# Altium integrated library TL3572-EVM-A1.1-000-202609041832.IntLib: 124 symbols (part 2 of 2)
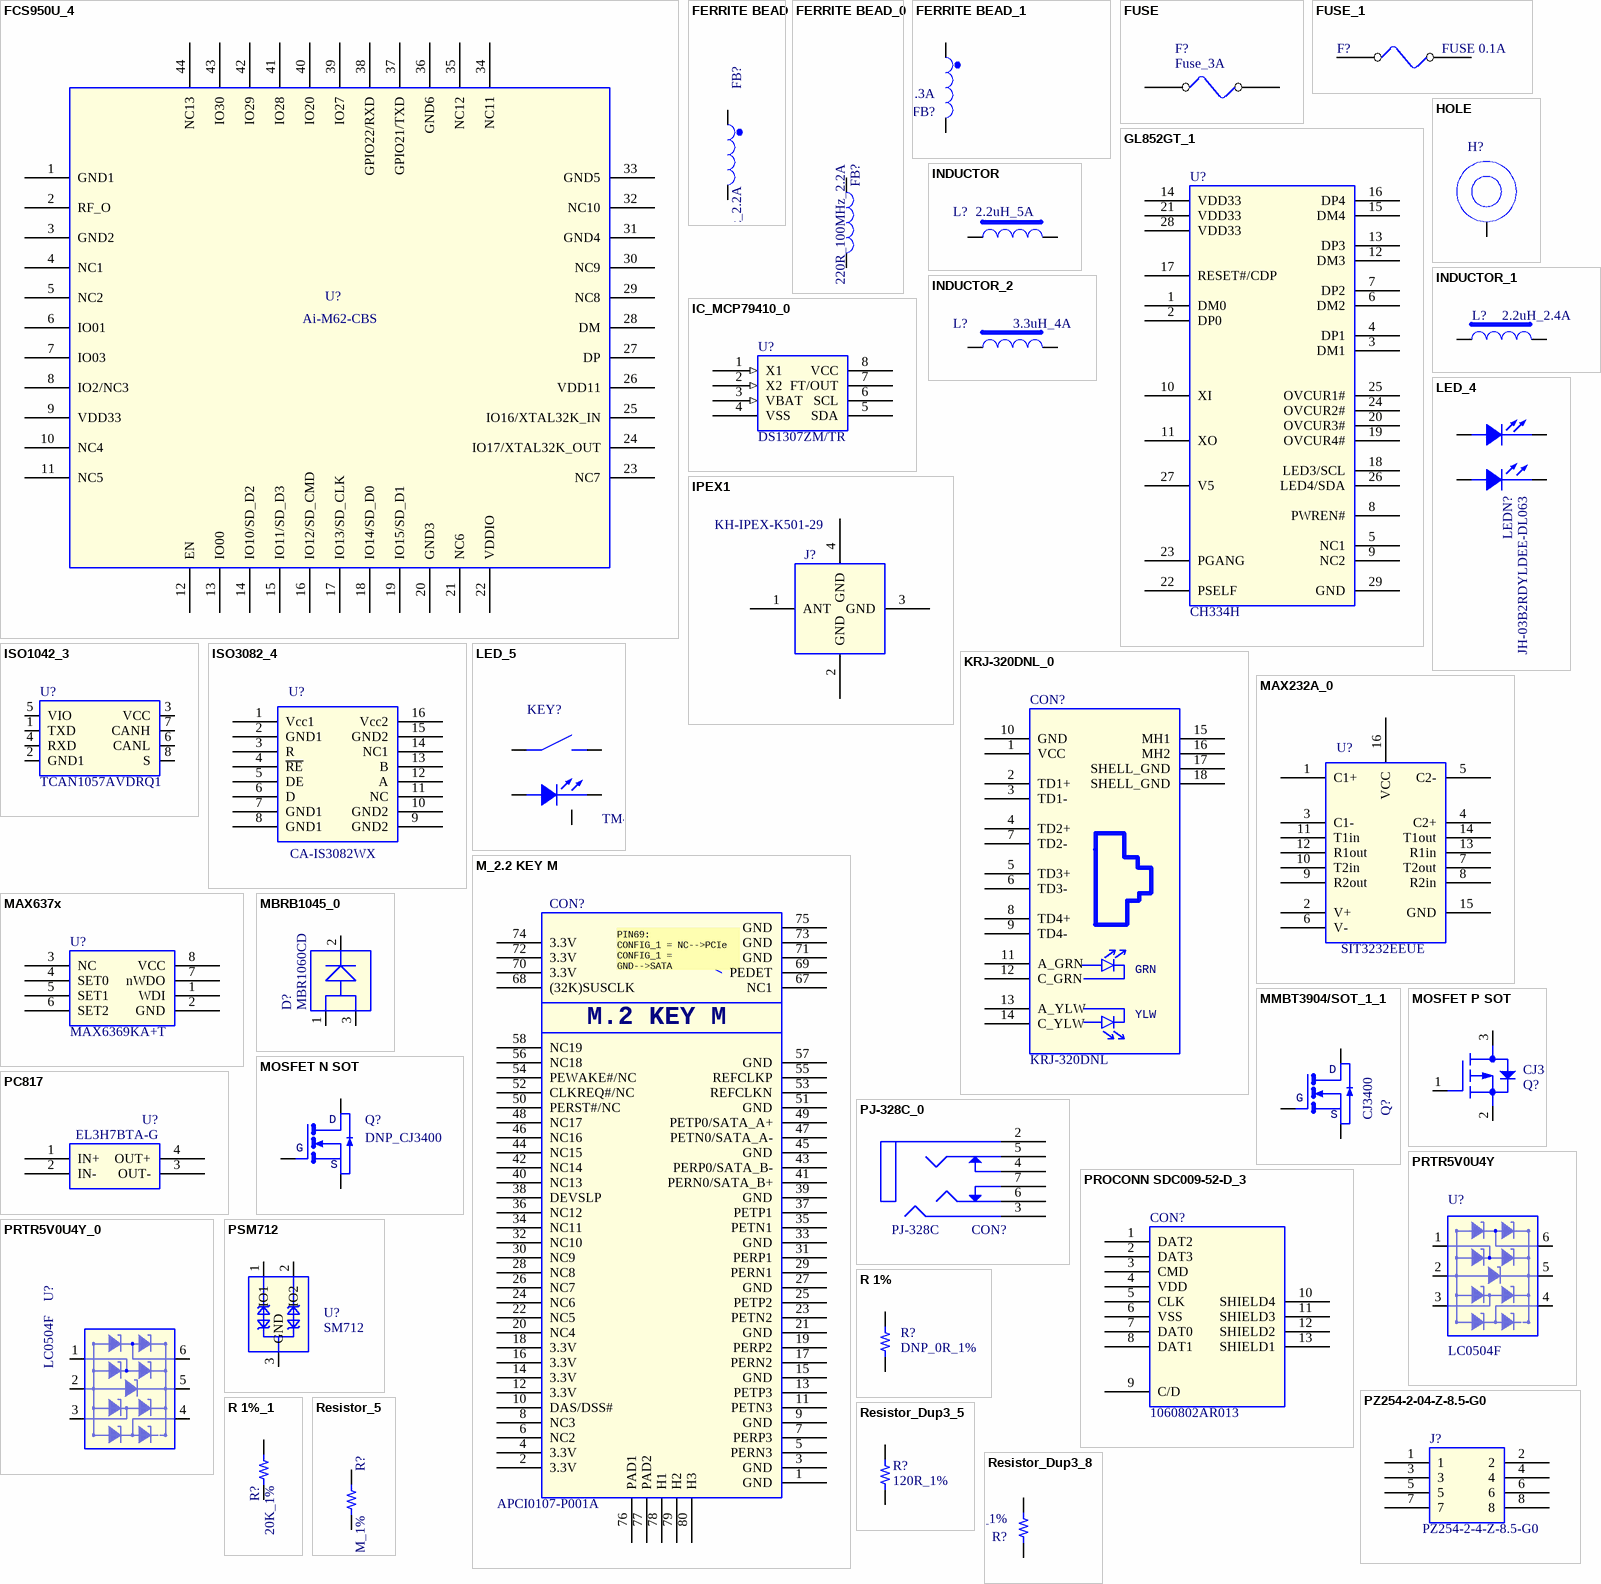
[diagram p6: symbols FCS950U_4 to Resistor_Dup3_8]

## IPEX1
designator J?, comment KH-IPEX-K501-29
IPEX 1代连接器; Manufacturer: 深圳市金航标电子有限公司(kinghelm); Manufacturer Character: 中国大陆; PCB Footprint: IPEX1; As-Welded: /; Operation Temperature（℃）: -40~85(Ta); Manufacturer PartNumber: KH-IPEX-K501-29
footprint IPEX1
pins: 1 ANT, 2 GND (power), 3 GND (power), 4 GND (power)

## ISO1042_3
designator U?, comment TCAN1057AVDRQ1
CAN收发器,非隔离,8Mbps; Manufacturer Character: 中国大陆; Manufacturer: Texas Instruments(美国德州仪器); PCB Footprint: soic8_d8; Eco-Label: ROHS; ERP Number: 005.0001.0004.01352; As-Welded: /; Operation Temperature（℃）: -40~+150(Tj); Manufacturer PartNumber: TCAN1057AVDRQ1; Part Status: 测评
footprint soic8_d8
pins: 1 TXD, 2 GND1 (power), 3 VCC (power), 4 RXD, 5 VIO (power), 6 CANL, 7 CANH, 8 S (power)

## ISO3082_4
designator U?, comment CA-IS3082WX
RS485收发器,2.5V~5.5V; Manufacturer: 上海川土微电子有限公司（CHIPANALOG）; Manufacturer Character: 中国大陆; PCB Footprint: SO16W; Eco-Label: ROHS; ERP Number: 005.0003.0007.00078; Operation Temperature（℃）: -40~+125(Ta); room: 6; As-Welded: /; Temperature: -40~125℃; Manufacturer PartNumber: CA-IS3082WX; Part Status: 试用
footprint SO16W
pins: 1 Vcc1, 2 GND1 (power), 3 R, 4 ~{RE}, 5 DE, 6 D, 7 GND1 (power), 8 GND1 (power), 9 GND2 (power), 10 GND2 (power), 11 NC, 12 A, 13 B, 14 NC1, 15 GND2 (power), 16 Vcc2

## KRJ-320DNL_0
designator CON?, comment KRJ-320DNL
RJ45连接器,14P,2.54mm间距,单层母座,90度,插件; Manufacturer Character: 中国大陆; Manufacturer: 东莞市科优达电子科技有限公司（DGKYD）; PCB Footprint: KRJ-320DNL_14P; As-Welded: /; Operation Temperature（℃）: -40~+85(Ta); ERP Number: 005.0001.0003.00310; Eco-Label: ROHS; Part Status: 优选; Temperature: -40~85℃; Manufacturer PartNumber: KRJ-320DNL
footprint KRJ-320DNL_14P
pins: 1 VCC, 2 TD1+, 3 TD1-, 4 TD2+, 5 TD3+, 6 TD3-, 7 TD2-, 8 TD4+, 9 TD4-, 10 GND, 11 A_GRN, 12 C_GRN, 13 A_YLW, 14 C_YLW, 15 MH1, 16 MH2, 17 SHELL_GND (power), 18 SHELL_GND (power)
text: GRN; YLW

## LED_4
designator LEDN?, comment JH-03B2RDYLDEE-DL063
直插式发光二极管,绿色,带灯座; Manufacturer Character: 中国大陆; Manufacturer: 深圳市巨弘光电有限公司（JUHLIGHT）; Manufacturer PartNumber: JH-03B2YG1E-DL; Eco-Label: ROHS; ERP Number: 005.0001.0010.00148; As-Welded: /; Operation Temperature（℃）: -40~+100(Ta); PCB Footprint: led-th_4p-l12d8-w4d6; Part Status: 试用; Temperature: -40~105℃
footprint led-th_4p-l12d8-w4d6
pins: 1 CATHODE1, 2 ANODE1, 3 ANODE2, 4 CATHODE2

## LED_5
designator KEY?, comment TM-007-D1-A-01
插件侧按按键,4P,90,白色,H=8.7,带灯; Manufacturer: 广东星坤科技股份有限公司（XKB）; Manufacturer Character: 中国大陆; Operation Temperature（℃）: -40~+85(Ta); As-Welded: /; ERP Number: 005.0001.0016.00102; Eco-Label: ROHS; PCB Footprint: sw-th_xkb_tm-007-d1-a-01; Temperature: -40~105℃; Manufacturer PartNumber: TM-007-D1-A-01; Part Status: 测评
footprint sw-th_xkb_tm-007-d1-a-01
pins: 1, 2, 3 CATHODE, 4 ANODE, 5 NPTH

## M_2.2 KEY M
designator CON?, comment APCI0107-P001A
（M.2）金手指连接器，KEY M,0.5mm,H=4.2mm; Manufacturer: 深圳市连欣科技有限公司; Manufacturer Character: 中国大陆; PCB Footprint: CON_SMD_APCI0113-P001A; Operation Temperature（℃）: /; ERP Number: 005.0001.0003.00544; Eco-Label: ROHS; Part Status: 优选; As-Welded: /; Manufacturer PartNumber: APCI0107-P001A
footprint CON_SMD_APCI0113-P001A
pins: 1 GND (power), 2 3.3V (power), 3 GND (power), 4 3.3V (power), 5 PERN3, 6 NC2, 7 PERP3, 8 NC3, 9 GND (power), 10 DAS/DSS#, 11 PETN3, 12 3.3V (power), 13 PETP3, 14 3.3V (power), 15 GND (power), 16 3.3V (power), 17 PERN2, 18 3.3V (power), 19 PERP2, 20 NC4, 21 GND (power), 22 NC5, 23 PETN2, 24 NC6, 25 PETP2, 26 NC7, 27 GND (power), 28 NC8, 29 PERN1, 30 NC9, 31 PERP1, 32 NC10, 33 GND (power), 34 NC11, 35 PETN1, 36 NC12, 37 PETP1, 38 DEVSLP, 39 GND (power), 40 NC13, 41 PERN0/SATA_B+, 42 NC14, 43 PERP0/SATA_B-, 44 NC15, 45 GND (power), 46 NC16, 47 PETN0/SATA_A-, 48 NC17, 49 PETP0/SATA_A+, 50 PERST#/NC, 51 GND (power), 52 CLKREQ#/NC, 53 REFCLKN, 54 PEWAKE#/NC, 55 REFCLKP, 56 NC18, 57 GND (power), 58 NC19, 67 NC1, 68 (32K)SUSCLK, 69 PEDET, 70 3.3V (power), 71 GND (power), 72 3.3V (power), 73 GND (power), 74 3.3V (power), 75 GND (power), 76 PAD1, 77 PAD2, 78 H1, 79 H2, 80 H3
text: PIN69: / CONFIG_1 = NC-->PCIe / CONFIG_1 = / GND-->SATA; M.2 KEY M

## MAX232A_0
designator U?, comment SIT3232EEUE
RS232收发器; Manufacturer: 湖南芯力特电子科技有限公司（SIT）; Manufacturer Character: 中国大陆; PCB Footprint: TSSOP16_PW16; Eco-Label: ROHS; ERP Number: 005.0001.0004.00886; As-Welded: /; Operation Temperature（℃）: -40~+85(Ta); room: RS232; Manufacturer PartNumber: SIT3232EEUE; Temperature: -40~85℃; Part Status: 优选
footprint TSSOP16_PW16
pins: 1 C1+, 2 V+, 3 C1-, 4 C2+, 5 C2-, 6 V-, 7 T2out, 8 R2in, 9 R2out, 10 T2in, 11 T1in, 12 R1out, 13 R1in, 14 T1out, 15 GND, 16 VCC

## MAX637x
designator U?, comment MAX6369KA+T
低电平有效开漏输出,2.5V-5.5V,-40~125℃; Manufacturer: Maxim Integrated（美国美信）; Manufacturer Character: 国外; ERP Number: 005.0001.0004.00509; Operation Temperature（℃）: -40~85(Ta); As-Welded: /; Eco-Label: ROHS; PCB Footprint: sot23_8; Part Status: 优选; Manufacturer PartNumber: MAX6369KA+T; Temperature: -40~125℃
footprint sot23_8
pins: 1 WDI, 2 GND, 3 NC, 4 SET0, 5 SET1, 6 SET2, 7 nWDO, 8 VCC

## MBRB1045_0
designator D?, comment MBR1060CD
肖特基二极管,VR=60V,IF=10A,VF=0.75V@5A,两路; Manufacturer Character: 中国大陆; Manufacturer: 山东芯诺电子科技股份有限公司（xnelec）; Eco-Label: ROHS; ERP Number: 005.0001.0010.00133; Operation Temperature（℃）: -55~+150(Tj); As-Welded: /; PCB Footprint: TO-252; Part Status: 试用; Manufacturer PartNumber: MBR1060CD; Temperature: -55~150℃
footprint TO-252
pins: 1, 2, 3

## MMBT3904/SOT_1_1
designator Q?, comment CJ3400
MOSFET,N沟道,VDSS=30V,VGSS=±12V,ID=5.8A,PD=0.35W,VGS(th)=1.4V; Manufacturer: 江苏长晶科技股份有限公司（JSCJ）; Manufacturer Character: 中国大陆; Eco-Label: ROHS; ERP Number: 005.0001.0009.00027; As-Welded: /; Operation Temperature（℃）: -55~+150(Tj); ROOM: DSP_LED; PCB Footprint: SOT23-3; Part Status: 优选; Manufacturer PartNumber: CJ3400
footprint SOT23-3
pins: 1 B, 2 E, 3 C
text: D; G; S

## MOSFET N SOT
designator Q?, comment DNP_CJ3400
MOSFET,N沟道,VDSS=30V,VGSS=±12V,ID=5.8A,PD=0.35W,VGS(th)=1.4V; Manufacturer: 江苏长晶科技股份有限公司（JSCJ）; Manufacturer PartNumber: CJ3400; Manufacturer Character: 中国大陆; Eco-Label: ROHS; ERP Number: 005.0001.0009.00027; Operation Temperature（℃）: -55~+150(Tj); ROOM: DSP_LED; As-Welded: DNP; PCB Footprint: SOT23-3; Temperature: -55~150℃; Part Status: 优选
footprint SOT23-3
pins: 1 B, 2 E, 3 C
text: D; G; S

## MOSFET P SOT
designator Q?, comment CJ3401
MOSFET,P沟道,VDSS=-30V,VGSS=±12V,ID=-4.2A,PD=0.35W,VGS(th)=-1.3V; Manufacturer: 江苏长晶科技股份有限公司（JSCJ）; Manufacturer Character: 中国大陆; room: DCIN; Operation Temperature（℃）: -55~+150(Tj); As-Welded: /; ERP Number: 005.0001.0009.00015; Eco-Label: ROHS; PCB Footprint: SOT23-3; Temperature: -55~150℃; Manufacturer Part Number: CJ3401; Manufacturer PartNumber: CJ3401; Part Status: 优选
footprint SOT23-3
pins: 1 GATE, 2 SOURCE, 3 DRAIN

## PC817
designator U?, comment EL3H7BTA-G
光耦,VF=1.2V,IF=50mA,IO=50mA,VCEO=80V,1通道; Manufacturer: EVERLIGHT(台湾亿光电子工业股份有限公司); Manufacturer Character: 中国台湾; PCB Footprint: soic127p700x200-4n; Eco-Label: ROHS; As-Welded: /; Operation Temperature（℃）: -55~+110(Ta); ERP Number: 005.0001.0018.00013; Part Status: 试用; Manufacturer PartNumber: EL3H7BTA-G
footprint soic127p700x200-4n
pins: 1 IN+, 2 IN-, 3 OUT-, 4 OUT+

## PJ-328C_0
designator CON?, comment PJ-328C
插件音频连接器,孔径3.5mm,黑色; Manufacturer Character: 中国大陆; Manufacturer: 深圳市金航标电子有限公司(kinghelm); Eco-Label: ROHS; ERP Number: 005.0001.0003.00628; As-Welded: /; Part Status: 试用; Manufacturer PartNumber: PJ-328C; Operation Temperature（℃）: /; PCB Footprint: PJ-328C
footprint PJ-328C
pins: 2 MIC, 3 GND, 4 DETR, 5 R, 6 L, 7 DETL

## PROCONN SDC009-52-D_3
designator CON?, comment 1060802AR013
Micro SD卡座,9P,自弹,贴片; Manufacturer: 广州高炬电子科技有限公司（gorchi）; Manufacturer Character: 中国大陆; As-Welded: /; Operation Temperature（℃）: -40~+85(Ta); ERP Number: 005.0001.0003.00383; Eco-Label: ROHS; PCB Footprint: CON_TF_CARD; Part Status: 优选; Manufacturer PartNumber: 1060802AR013; Temperature: -40~85℃
footprint CON_TF_CARD
pins: 1 DAT2, 2 DAT3, 3 CMD, 4 VDD (power), 5 CLK, 6 VSS (power), 7 DAT0, 8 DAT1, 9 C/D, 10 SHIELD4 (power), 11 SHIELD3, 12 SHIELD2, 13 SHIELD1

## PRTR5V0U4Y
designator U?, comment LC0504F
ESD二极管,VRWM=5V,VBR=6V,四组,单向,8KV,15KV; Manufacturer Character: 中国大陆; Manufacturer: 上海雷卯电子科技有限公司（Leiditech）; PCB Footprint: SOT363; room: 8; Operation Temperature（℃）: -55~+125(Tj); As-Welded: /; ERP Number: 005.0001.0017.00061; Eco-Label: ROHS; Part Status: 优选; Manufacturer PartNumber: LC0504F; Temperature: -55~125℃
footprint SOT363
pins: 1, 2, 3, 4, 5, 6

## PRTR5V0U4Y_0
designator U?, comment LC0504F
ESD二极管,VRWM=5V,VBR=6V,四组,单向,8KV,15KV; Manufacturer Part Number: PRTR5V0U4Y; Manufacturer: 上海雷卯电子科技有限公司（Leiditech）; Manufacturer Character: 中国大陆; As-Welded: /; Operation Temperature（℃）: -55~+125(Tj); room: SD; ERP Number: 005.0001.0017.00061; Eco-Label: ROHS; PCB Footprint: SOT363; Manufacturer PartNumber: LC0504F; Temperature: -55~125℃; Part Status: 优选
footprint SOT363
pins: 1, 2, 3, 4, 5, 6

## PSM712
designator U?, comment SM712
TVS二极管,VRWM=7V/12V,VBR=7.5V/13.3V,两组,双向,30KV,30KV; Manufacturer: 上海雷卯电子科技有限公司（Leiditech）; Manufacturer Character: 中国大陆; PCB Footprint: SOT23-3; Eco-Label: ROHS; ERP Number: 005.0001.0017.00079; Operation Temperature（℃）: -55~+125(Ta); As-Welded: /; Part Status: 试用; Manufacturer PartNumber: SM712
footprint SOT23-3
pins: 1 IO1, 2 IO2, 3 GND

## PZ254-2-04-Z-8.5-G0
designator J?, comment PZ254-2-4-Z-8.5-G0
插件双排排针,2x4P,2.54mm,针长L=11.5mm,180度; Manufacturer: 深圳市华灿天禄电子有限公司（HCTL); Manufacturer Character: 中国大陆; PCB Footprint: CON_2D54_2X4_TH; ERP Number: 005.0001.0003.00627; Eco-Label: ROHS; As-Welded: /; Operation Temperature（℃）: -55~+105(Ta); Manufacturer PartNumber: PZ254-2-4-Z-8.5-G0; Part Status: 试用
footprint CON_2D54_2X4_TH
pins: 1, 2, 3, 4, 5, 6, 7, 8

## R 1%
designator R?, comment DNP_0R_1%
贴片电阻,0R,±1%,1/16W; Manufacturer PartNumber: RC-02000FT; Manufacturer: 广东风华高新科技股份有限公司（FH）; Manufacturer Character: 中国大陆; CLASS: DISCRETE; Characteristic: 0402 1/16W +/-1%; PCB Footprint: R0402; Operation Temperature（℃）: -55~+155(Ta); As-Welded: DNP; ERP Number: 005.0001.0002.00938; Eco-Label: ROHS; Temperature: -55~155℃; ERP PCB Footprint: R0402; Part Status: 优选
footprint R0402
pins: 1, 2

## R 1%_1
designator R?, comment 20K_1%
贴片电阻,20K,±1%,1/10W; Manufacturer Character: 中国大陆; Manufacturer PartNumber: RS-03K2002FT; Manufacturer: 广东风华高新科技股份有限公司（FH）; CLASS: DISCRETE; Characteristic: 0402 1/16W +/-1%; PCB Footprint: R0603; Eco-Label: ROHS; As-Welded: /; Operation Temperature（℃）: -55~+155(Ta); ERP Number: 005.0001.0002.01054; ERP PCB Footprint: R0603; Temperature: -55~155℃; Part Status: 优选
footprint R0603
pins: 1, 2

## Resistor_5
designator R?, comment 1M_1%
贴片电阻,1M,±1%,1/4W; Manufacturer: 广东风华高新科技股份有限公司（FH）; Manufacturer PartNumber: RS-06K1004FT; Manufacturer Character: 中国大陆; CLASS: DISCRETE; PCB Footprint: R1206; Eco-Label: ROHS; Operation Temperature（℃）: -55~+155(Ta); room: USB HUB; As-Welded: /; ERP Number: 005.0001.0002.01458; Part Status: 测评
footprint R1206
pins: 1, 2

## Resistor_Dup3_5
designator R?, comment 120R_1%
贴片电阻,120R,±1%,1/8W; Manufacturer: 广东风华高新科技股份有限公司（FH）; Manufacturer PartNumber: RS-05K1200FT; Manufacturer Character: 中国大陆; CLASS: DISCRETE; Eco-Label: ROHS; ERP Number: 005.0001.0002.01050; room: DCIN; Operation Temperature（℃）: -55~+155(Ta); As-Welded: /; PCB Footprint: R0805; Part Status: 优选; Temperature: -55~155℃
footprint R0805
pins: 1, 2

## Resistor_Dup3_8
designator R?, comment 2R_1%
贴片电阻,2R,±1%,1/3W; Manufacturer Character: 中国大陆; Manufacturer PartNumber: RS-1210L2R00FT; Manufacturer: 广东风华高新科技股份有限公司（FH）; CLASS: DISCRETE; As-Welded: /; Operation Temperature（℃）: -55~+155(Ta); ERP Number: 005.0001.0002.01281; Eco-Label: ROHS; PCB Footprint: R1210; Part Status: 试用
footprint R1210
pins: 1, 2

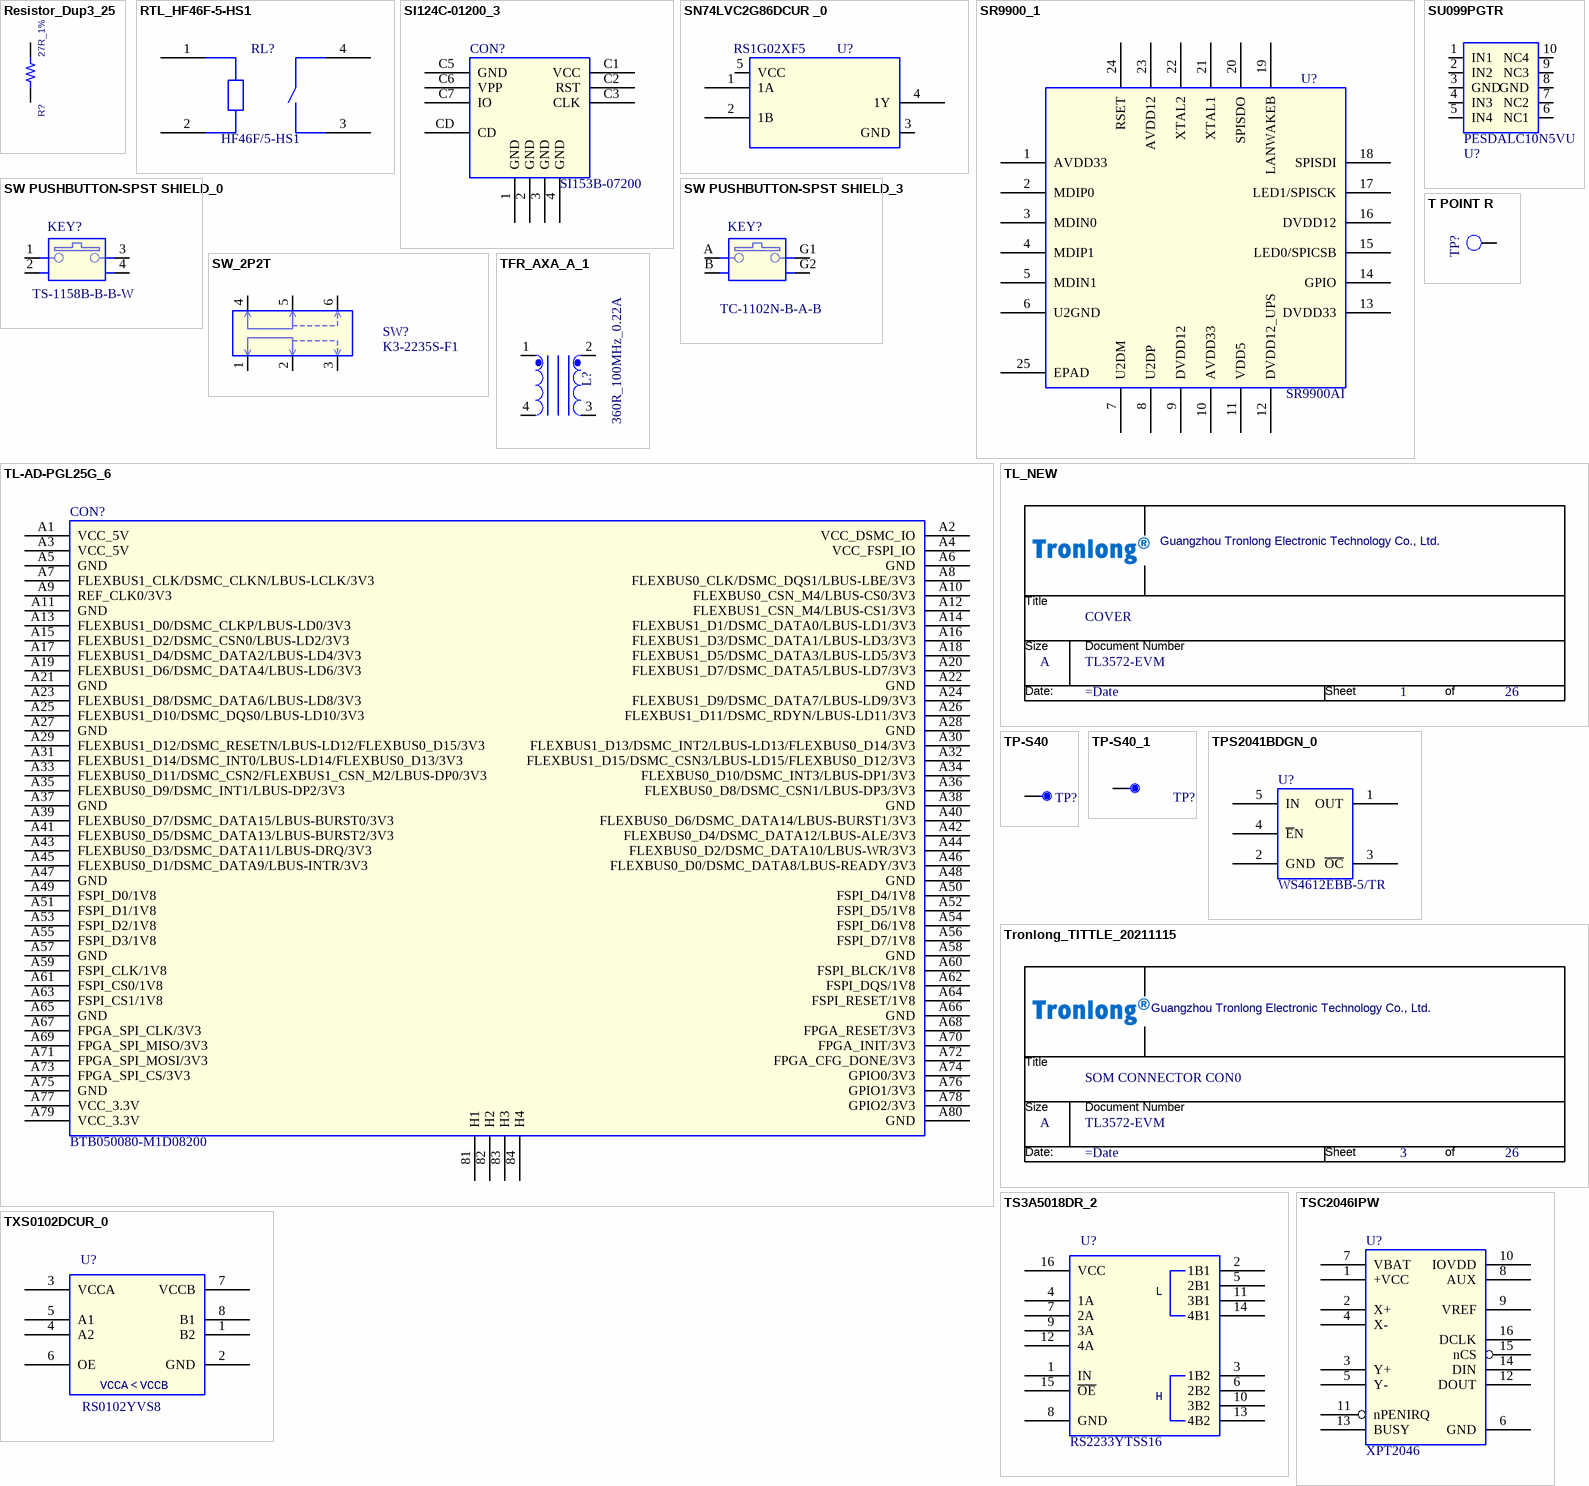
[diagram p4: symbols Resistor_Dup3_25 to TXS0102DCUR_0]

## Resistor_Dup3_25
designator R?, comment 27R_1%
25121WF270JT4E; Manufacturer PartNumber: 27R,±1%,R2512,≥1W; Manufacturer: 广州创龙; Manufacturer Character: 中国大陆; CLASS: DISCRETE; PCB Footprint: R2512; Eco-Label: ROHS; As-Welded: /; Operation Temperature（℃）: -40~+85(Ta); ERP Number: 005.0001.0023.00619; ERP PCB Footprint: R2512; Part Status: -
footprint R2512
pins: 1, 2

## RTL_HF46F-5-HS1
designator RL?, comment HF46F/5-HS1
继电器,5V,一组转换,单刀单掷,5A; Manufacturer: 厦门宏发电声股份有限公司(HONGFA); Manufacturer Character: 中国大陆; PCB Footprint: RTL_HF46F-5-HS1; ERP Number: 005.0001.0013.00005; Eco-Label: ROHS; Operation Temperature（℃）: -40~+85(Ta); As-Welded: /; Manufacturer PartNumber: HF46F/5-HS1; Part Status: 测评
footprint RTL_HF46F-5-HS1
pins: 1, 2, 3, 4

## SI124C-01200_3
designator CON?, comment SI153B-07200
Nano SIM卡座,7P,1.27mm间距,自弹,带检测脚; Manufacturer: 深圳市爱特姆科技有限公司（ATOM）; Manufacturer Character: 中国大陆; PCB Footprint: SIM_SI124C-01200; As-Welded: /; Operation Temperature（℃）: -40~+85(Ta); ERP Number: 005.0001.0003.00758; ERP PCB Footprint: CON_nano SIM_7P_1D27_SMD; Eco-Label: ROHS; Part Status: 测评; Manufacturer PartNumber: SI153B-07200
footprint SIM_SI124C-01200
pins: 1 GND (power), 2 GND (power), 3 GND (power), 4 GND (power), C1 VCC (power), C2 RST, C3 CLK, C5 GND (power), C6 VPP (power), C7 IO, CD

## SN74LVC2G86DCUR _0
designator U?, comment RS1G02XF5
1个两输入或非门; Manufacturer Character: 中国大陆; Manufacturer: 江苏润石科技有限公司（RUNIC）; PCB Footprint: SOT23-5; Operation Temperature（℃）: -40~+125(Ta); As-Welded: /; ERP Number: 005.0001.0004.01183; Eco-Label: ROHS; Part Status: 测评; Manufacturer PartNumber: RS1G02XF5; ERP PCB Footprint: SOT23-5
footprint SOT23-5
pins: 1 1A, 2 1B, 3 GND (power), 4 1Y, 5 VCC (power)

## SR9900_1
designator U?, comment SR9900AI
以太网控制器，USB; Manufacturer Character: 中国大陆; Manufacturer: 深圳市和芯润德科技有限公司（CoreChips）; Operation Temperature（℃）: -40~+85(Ta); As-Welded: /; ERP Number: 005.0001.0004.00914; Eco-Label: ROHS; PCB Footprint: QFN24-4X4-0d5; Part Status: 试用; Manufacturer PartNumber: SR9900AI
footprint QFN24-4X4-0d5
pins: 1 AVDD33 (power), 2 MDIP0, 3 MDIN0, 4 MDIP1, 5 MDIN1, 6 U2GND (power), 7 U2DM, 8 U2DP, 9 DVDD12 (power), 10 AVDD33 (power), 11 VDD5, 12 DVDD12_UPS (power), 13 DVDD33 (power), 14 GPIO, 15 LED0/SPICSB, 16 DVDD12 (power), 17 LED1/SPISCK, 18 SPISDI, 19 LANWAKEB, 20 SPISDO, 21 XTAL1, 22 XTAL2, 23 AVDD12 (power), 24 RSET, 25 EPAD (power)

## SU099PGTR
designator U?, comment PESDALC10N5VU
ESD二极管,VRWM=5V,VBR=6V,四组,单向,15KV,30KV; Manufacturer Character: 中国大陆; Manufacturer: 上海芯导电子科技股份有限公司（Prisemi）; PCB Footprint: DFN-10-2510; Eco-Label: ROHS; As-Welded: /; Operation Temperature（℃）: -55~+150(Tj); ERP Number: 005.0001.0004.00739; Temperature: -55~150; Manufacturer PartNumber: PESDALC10N5VU; Part Status: 优选
footprint DFN-10-2510
pins: 1 IN1, 2 IN2, 3 GND (power), 4 IN3, 5 IN4, 6 NC1, 7 NC2, 8 GND (power), 9 NC3, 10 NC4

## SW PUSHBUTTON-SPST SHIELD_0
designator KEY?, comment TS-1158B-B-B-W
贴片按键,4P,180,白色,H=3.5mm; Manufacturer Character: 中国大陆; Manufacturer: 广东星坤科技股份有限公司（XKB）; Operation Temperature（℃）: -30~+85(Ta); room: KEY; ERP Number: 005.0001.0016.00072; As-Welded: /; Eco-Label: ROHS; Manufacturer PartNumber: TS-1158B-B-B-W; Part Status: 优选; PCB Footprint: TS-1158B-B-B-W
footprint TS-1158B-B-B-W
pins: 1, 2, 3, 4

## SW PUSHBUTTON-SPST SHIELD_3
designator KEY?, comment TC-1102N-B-A-B
插件侧按按键,4P,90,黑色,H=7mm,带支架; Manufacturer: 广东星坤科技股份有限公司（XKB）; Manufacturer Character: 中国大陆; Eco-Label: ROHS; ERP Number: 005.0001.0016.00088; As-Welded: /; Operation Temperature（℃）: -40~+85(Ta); PCB Footprint: sw_evq-pf003m; Manufacturer PartNumber: TC-1102N-B-A-B; Part Status: 测评
footprint sw_evq-pf003m
pins: A 1, B 2, G1 3, G2 4

## SW_2P2T
designator SW?, comment K3-2235S-F1
贴片拨动开关,2P2T,180,黑色,无定位柱; Manufacturer Character: 国外; Manufacturer: HRO(韩国韩荣); PCB Footprint: SW-6P-L9169P2D5-SMD; Eco-Label: ROHS; Operation Temperature（℃）: -40~+85(Ta); As-Welded: /; ERP Number: 005.0001.0016.00086; Part Status: 测评; ERP PCB Footprint: SW-6P-L9169P2D5-SMD; Manufacturer PartNumber: K3-2235S-F1
footprint SW-6P-L9169P2D5-SMD
pins: 1, 2, 3, 4, 5, 6

## T POINT R
designator TP?, comment SMT TP  (value not drawn)
/; Manufacturer Character: 中国大陆; CLASS: IC; PCB Footprint: TP30; As-Welded: DNP; Manufacturer: /; HEIGHT: 0.1MM; Operation Temperature（℃）: /; Manufacturer PartNumber: /
footprint TP30
pins: 1 TP

## TFR_AXA_A_1
designator L?, comment 360R_100MHz_0.22A
贴片共模电感,500mΩ,0.22A,50V,360Ω@100MHz; Manufacturer Character: 国外; Manufacturer: TDK(日本东电化); Manufacturer PartNumber: ACM2012-361-2P-T001; PCB Footprint: SMD-L2012M-4P; ERP Number: 005.0001.0006.00103; Operation Temperature（℃）: -40~+105(Ta); As-Welded: /; Eco-Label: ROHS; Part Status: 测评
footprint SMD-L2012M-4P
pins: 1, 2, 3, 4

## TL-AD-PGL25G_6
designator CON?, comment BTB050080-M1D08200
B2B连接器,2x40P,0.5mm间距,公座,高度1.0mm,黑色,贴片; Manufacturer Character: 中国大陆; Manufacturer: 深圳市爱特姆科技有限公司（ATOM）; PCB Footprint: TL-AD-PGL25G; Operation Temperature（℃）: -40~+105(Ta); As-Welded: /; Eco-Label: ROHS; ERP Number: 005.0001.0003.00524; Manufacturer PartNumber: BTB050080-M1D08200; Part Status: 优选
footprint TL-AD-PGL25G
pins: 81 H1, 82 H2, 83 H3, 84 H4, A1 VCC_5V (power), A2 VCC_DSMC_IO (power), A3 VCC_5V (power), A4 VCC_FSPI_IO (power), A5 GND (power), A6 GND (power), A7 FLEXBUS1_CLK/DSMC_CLKN/LBUS-LCLK/3V3, A8 FLEXBUS0_CLK/DSMC_DQS1/LBUS-LBE/3V3, A9 REF_CLK0/3V3, A10 FLEXBUS0_CSN_M4/LBUS-CS0/3V3, A11 GND (power), A12 FLEXBUS1_CSN_M4/LBUS-CS1/3V3, A13 FLEXBUS1_D0/DSMC_CLKP/LBUS-LD0/3V3, A14 FLEXBUS1_D1/DSMC_DATA0/LBUS-LD1/3V3, A15 FLEXBUS1_D2/DSMC_CSN0/LBUS-LD2/3V3, A16 FLEXBUS1_D3/DSMC_DATA1/LBUS-LD3/3V3, A17 FLEXBUS1_D4/DSMC_DATA2/LBUS-LD4/3V3, A18 FLEXBUS1_D5/DSMC_DATA3/LBUS-LD5/3V3, A19 FLEXBUS1_D6/DSMC_DATA4/LBUS-LD6/3V3, A20 FLEXBUS1_D7/DSMC_DATA5/LBUS-LD7/3V3, A21 GND (power), A22 GND (power), A23 FLEXBUS1_D8/DSMC_DATA6/LBUS-LD8/3V3, A24 FLEXBUS1_D9/DSMC_DATA7/LBUS-LD9/3V3, A25 FLEXBUS1_D10/DSMC_DQS0/LBUS-LD10/3V3, A26 FLEXBUS1_D11/DSMC_RDYN/LBUS-LD11/3V3, A27 GND (power), A28 GND (power), A29 FLEXBUS1_D12/DSMC_RESETN/LBUS-LD12/FLEXBUS0_D15/3V3, A30 FLEXBUS1_D13/DSMC_INT2/LBUS-LD13/FLEXBUS0_D14/3V3, A31 FLEXBUS1_D14/DSMC_INT0/LBUS-LD14/FLEXBUS0_D13/3V3, A32 FLEXBUS1_D15/DSMC_CSN3/LBUS-LD15/FLEXBUS0_D12/3V3, A33 FLEXBUS0_D11/DSMC_CSN2/FLEXBUS1_CSN_M2/LBUS-DP0/3V3, A34 FLEXBUS0_D10/DSMC_INT3/LBUS-DP1/3V3, A35 FLEXBUS0_D9/DSMC_INT1/LBUS-DP2/3V3, A36 FLEXBUS0_D8/DSMC_CSN1/LBUS-DP3/3V3, A37 GND (power), A38 GND (power), A39 FLEXBUS0_D7/DSMC_DATA15/LBUS-BURST0/3V3, A40 FLEXBUS0_D6/DSMC_DATA14/LBUS-BURST1/3V3, A41 FLEXBUS0_D5/DSMC_DATA13/LBUS-BURST2/3V3, A42 FLEXBUS0_D4/DSMC_DATA12/LBUS-ALE/3V3, A43 FLEXBUS0_D3/DSMC_DATA11/LBUS-DRQ/3V3, A44 FLEXBUS0_D2/DSMC_DATA10/LBUS-WR/3V3, A45 FLEXBUS0_D1/DSMC_DATA9/LBUS-INTR/3V3, A46 FLEXBUS0_D0/DSMC_DATA8/LBUS-READY/3V3, A47 GND (power), A48 GND (power), A49 FSPI_D0/1V8, A50 FSPI_D4/1V8, A51 FSPI_D1/1V8, A52 FSPI_D5/1V8, A53 FSPI_D2/1V8, A54 FSPI_D6/1V8, A55 FSPI_D3/1V8, A56 FSPI_D7/1V8, A57 GND (power), A58 GND (power), A59 FSPI_CLK/1V8, A60 FSPI_BLCK/1V8, A61 FSPI_CS0/1V8, A62 FSPI_DQS/1V8, A63 FSPI_CS1/1V8, A64 FSPI_RESET/1V8, A65 GND (power), A66 GND (power), A67 FPGA_SPI_CLK/3V3, A68 FPGA_RESET/3V3, A69 FPGA_SPI_MISO/3V3, A70 FPGA_INIT/3V3, A71 FPGA_SPI_MOSI/3V3, A72 FPGA_CFG_DONE/3V3, A73 FPGA_SPI_CS/3V3 (power), A74 GPIO0/3V3, A75 GND (power), A76 GPIO1/3V3, A77 VCC_3.3V (power), A78 GPIO2/3V3, A79 VCC_3.3V (power), A80 GND (power)

## TL_NEW
designator *?  Page Count: 26  Page Number: 1  Page Size: A  OrgName: Guangzhou Tronlong Electronic Technology Co., Ltd.  Title: COVER  Doc: TL3572-EVM  (hidden comment: TL_NEW)  (graphical)
RevCode: A?; Page Create Date: March  8, 1995; Document: TL3572-EVM; Page Modify Date: =Date
text: Title; Size; Document Number; Date:; Sheet; of

## TP-S40
designator TP?, comment SMT TP  (value not drawn)
/; Manufacturer Character: 中国大陆; Characteristic: Test point,diameter=1.0mm; As-Welded: DNP; PCB Footprint: TP30; Operation Temperature（℃）: /; Manufacturer: /; Manufacturer PartNumber: /
footprint TP30
pins: 1

## TP-S40_1
designator TP?, comment TP-5011  (value not drawn)
黑色直插测试柱; Manufacturer: 深圳市保定五金塑胶有限公司; Manufacturer Character: 中国大陆; Characteristic: Test point,diameter=1.0mm; Operation Temperature（℃）: -40~+85(Ta); As-Welded: /; ERP Number: 005.0001.0019.00030; Eco-Label: ROHS; PCB Footprint: TP_DIP; Manufacturer PartNumber: TP-5011; Part Status: 试用
footprint TP_DIP
pins: 1

## TPS2041BDGN_0
designator U?, comment WS4612EBB-5/TR
限流配电开关,2.5V~5.5V,1.4A; Manufacturer Character: 中国大陆; Manufacturer: 上海韦尔半导体股份有限公司（WILLSEMI）; PCB Footprint: SOT23-5; Eco-Label: ROHS; ERP Number: 005.0001.0004.00705; room: DRDUSB; Operation Temperature（℃）: -40~+85(Ta); As-Welded: /; Manufacturer PartNumber: WS4612EBB-5/TR; Temperature: -40~85℃; Part Status: 试用
footprint SOT23-5
pins: 1 OUT, 2 GND, 3 ~{OC}, 4 ~{E}N, 5 IN

## Tronlong_TITTLE_20211115
designator *?  Doc: TL3572-EVM  Title: SOM CONNECTOR CON0  OrgName: Guangzhou Tronlong Electronic Technology Co., Ltd.  Page Size: A  Page Number: 3  Page Count: 26  (hidden comment: Tronlong_TITTLE_20211115)  (graphical)
RevCode: A?; Page Create Date: March  8, 1995; Page Modify Date: =Date
text: Title; Size; Document Number; Date:; Sheet; of

## TS3A5018DR_2
designator U?, comment RS2233YTSS16
4通道模拟开关; Manufacturer: 江苏润石科技有限公司（RUNIC）; Manufacturer Character: 中国大陆; Operation Temperature（℃）: -40~+85(Ta); room: JTAG_DSP; As-Welded: /; ERP Number: 005.0001.0004.00913; Eco-Label: ROHS; PCB Footprint: TSSOP16; Temperature: -40~85℃; Manufacturer PartNumber: RS2233YTSS16; Part Status: 优选
footprint TSSOP16
pins: 1 IN, 2 1B1, 3 1B2, 4 1A, 5 2B1, 6 2B2, 7 2A, 8 GND (power), 9 3A, 10 3B2, 11 3B1, 12 4A, 13 4B2, 14 4B1, 15 ~{OE}, 16 VCC (power)
text: L; H

## TSC2046IPW
designator U?, comment XPT2046
触摸屏控制器; Manufacturer: 深圳市矽普特科技有限公司（XPT）; Manufacturer Character: 中国大陆; PCB Footprint: TSSOP16; ERP Number: 005.0001.0004.00544; Operation Temperature（℃）: -40~+85(Ta); room: 10; As-Welded: /; Eco-Label: ROHS; Manufacturer PartNumber: XPT2046; Part Status: 优选
footprint TSSOP16
pins: 1 +VCC, 2 X+, 3 Y+, 4 X-, 5 Y-, 6 GND, 7 VBAT, 8 AUX, 9 VREF, 10 IOVDD, 11 nPENIRQ, 12 DOUT, 13 BUSY, 14 DIN, 15 nCS, 16 DCLK

## TXS0102DCUR_0
designator U?, comment RS0102YVS8
2位双向电平转换器; Manufacturer: 江苏润石科技有限公司（RUNIC）; Manufacturer Character: 中国大陆; Operation Temperature（℃）: -40~+85(Ta); As-Welded: /; ERP Number: 005.0001.0004.00890; Eco-Label: ROHS; PCB Footprint: SOP8-20-91; Temperature: -40~85℃; Manufacturer PartNumber: RS0102YVS8; Part Status: 试用
footprint SOP8-20-91
pins: 1 B2, 2 GND, 3 VCCA, 4 A2, 5 A1, 6 OE, 7 VCCB, 8 B1
text: VCCA＜VCCB

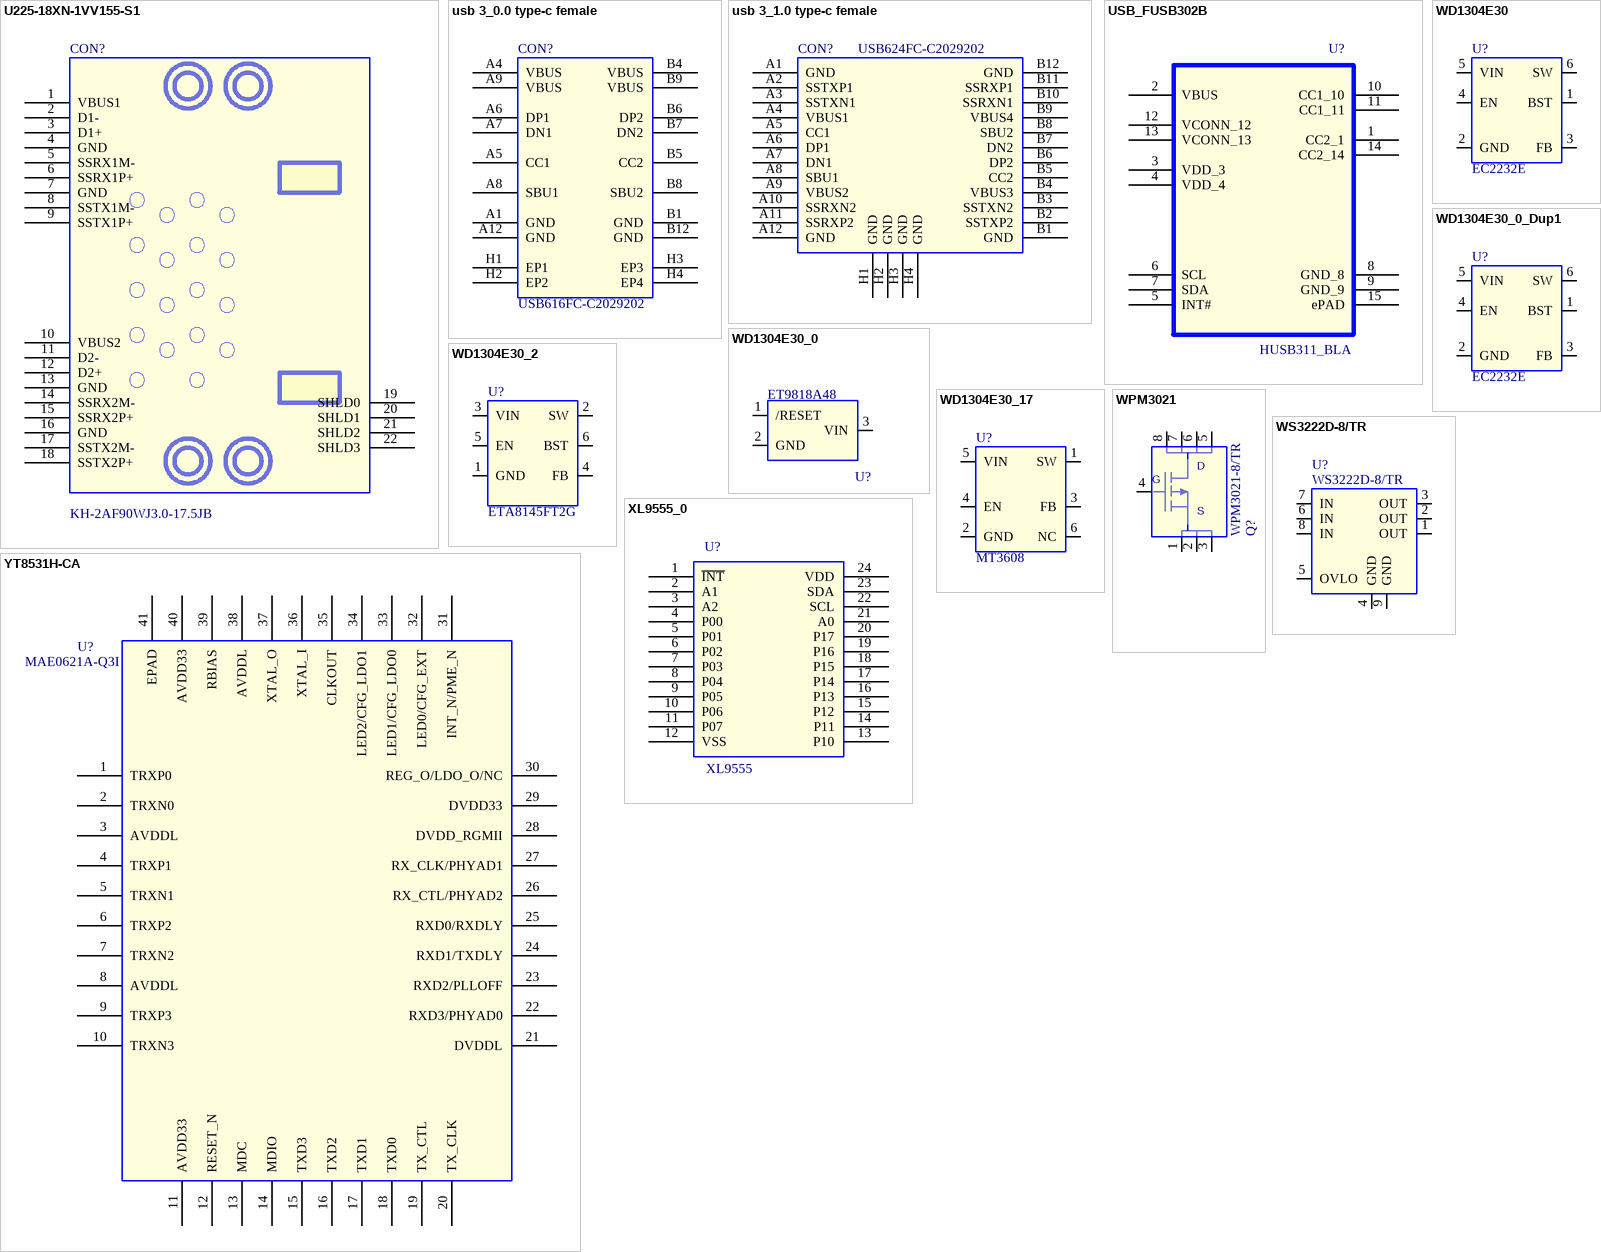
[diagram p5: symbols U225-18XN-1VV155-S1 to YT8531H-CA]

## U225-18XN-1VV155-S1
designator CON?, comment KH-2AF90WJ3.0-17.5JB
USB A型座,USB3.0,18P,90度,双层,母座,插件; Manufacturer: 深圳市金航标电子有限公司(kinghelm); Manufacturer Character: 中国大陆; PCB Footprint: con_usb30_a_dual; ERP Number: 005.0001.0003.00696; Eco-Label: ROHS; As-Welded: /; Operation Temperature（℃）: -25~+85(Ta); Manufacturer PartNumber: KH-2AF90WJ3.0-17.5JB; Part Status: 测评
footprint con_usb30_a_dual
pins: 1 VBUS1 (power), 2 D1-, 3 D1+, 4 GND (power), 5 SSRX1M-, 6 SSRX1P+, 7 GND (power), 8 SSTX1M-, 9 SSTX1P+, 10 VBUS2 (power), 11 D2-, 12 D2+, 13 GND (power), 14 SSRX2M-, 15 SSRX2P+, 16 GND (power), 17 SSTX2M-, 18 SSTX2P+, 19 SHLD0, 20 SHLD1, 21 SHLD2, 22 SHLD3

## usb 3_0.0 type-c female
designator CON?, comment USB616FC-C2029202
Type-C座,16P,0.8mm,母座,侧贴; Manufacturer Character: 中国大陆; Manufacturer: 深圳市爱特姆科技有限公司（ATOM）; Eco-Label: ROHS; ERP Number: 005.0001.0003.00751; As-Welded: /; room: 10; Operation Temperature（℃）: -40~85(Ta); PCB Footprint: TYPE-C_16P_180_SMD; Temperature: -40~85℃; Manufacturer PartNumber: USB616FC-C2029202; Part Status: 试用
footprint TYPE-C_16P_180_SMD
pins: A1 GND (power), A4 VBUS (power), A5 CC1, A6 DP1, A7 DN1, A8 SBU1, A9 VBUS (power), A12 GND (power), B1 GND (power), B4 VBUS (power), B5 CC2, B6 DP2, B7 DN2, B8 SBU2, B9 VBUS (power), B12 GND (power), H1 EP1 (power), H2 EP2 (power), H3 EP3 (power), H4 EP4 (power)

## usb 3_1.0 type-c female
designator CON?, comment USB624FC-C2029202
USB TYPE C 24P FEMALE SMT 侧贴 带定位柱 双壳点焊带弹弯脚 L=14.30 CH=5.06; Manufacturer Character: 中国大陆; Manufacturer: 深圳市爱特姆科技有限公司（ATOM）; PCB Footprint: TYPE-C_24P_180_SMD; Eco-Label: ROHS; ERP Number: 005.0001.0003.00750; As-Welded: /; Operation Temperature（℃）: -40~85(Ta); room: 10; Temperature: -40~85℃; Manufacturer PartNumber: USB624FC-C2029202; Part Status: 试用
footprint TYPE-C_24P_180_SMD
pins: A1 GND (power), A2 SSTXP1, A3 SSTXN1, A4 VBUS1, A5 CC1, A6 DP1, A7 DN1, A8 SBU1, A9 VBUS2, A10 SSRXN2, A11 SSRXP2, A12 GND (power), B1 GND (power), B2 SSTXP2, B3 SSTXN2, B4 VBUS3, B5 CC2, B6 DP2, B7 DN2, B8 SBU2, B9 VBUS4, B10 SSRXN1, B11 SSRXP1, B12 GND (power), H1 GND (power), H2 GND (power), H3 GND (power), H4 GND (power)

## USB_FUSB302B
designator U?, comment HUSB311_BLA
USB Type-C PD 控制器; Manufacturer: 深圳慧能泰半导体科技有限公司（Hynetek）; Manufacturer Character: 中国大陆; PCB Footprint: MLP14_2R50X2R50X0R80; Operation Temperature（℃）: -40~+85(Ta); Eco-Label: ROHS; ERP Number: 005.0001.0004.01089; As-Welded: /; Priority: A; Part Status: 试用; RK PN: HUSB311_BLA; Part Type: USB; Manufacturer PN: HUSB311_BLA; Created by: JJJ; Manufacturer PartNumber: HUSB311_BLA
footprint MLP14_2R50X2R50X0R80
pins: 1 CC2_1, 2 VBUS, 3 VDD_3 (power), 4 VDD_4 (power), 5 INT#, 6 SCL, 7 SDA, 8 GND_8 (power), 9 GND_9 (power), 10 CC1_10, 11 CC1_11, 12 VCONN_12, 13 VCONN_13, 14 CC2_14, 15 ePAD (power)

## WD1304E30
designator U?, comment EC2232E
DC/DC,Buck,Vin:4.5V~17V,Vout:0.6V~6V,3A,1路; Manufacturer Character: 中国大陆; Manufacturer: 上海芯强微电子股份有限公司（Ecranic）; PCB Footprint: SOT-23-6L; Eco-Label: ROHS; ERP Number: 005.0001.0004.00889; Operation Temperature（℃）: -40~+85(Ta); As-Welded: /; Part Status: 试用; Temperature: -40~85℃; Manufacturer PartNumber: EC2232E
footprint SOT-23-6L
pins: 1 BST, 2 GND (power), 3 FB, 4 EN, 5 VIN (power), 6 SW

## WD1304E30_0
designator U?, comment ET9818A48
电源监控,4.8V,阈值电压4.7V; Manufacturer: 无锡力芯微电子股份有限公司（ETEK）; Manufacturer Character: 中国大陆; PCB Footprint: sot23-3_dbz3_1; Eco-Label: ROHS; ERP PCB Footprint: SOT23-3L; ERP Number: 005.0001.0019.00043; As-Welded: /; Operation Temperature（℃）: -40~+85(Ta); Manufacturer PartNumber: ET9818A48; Temperature: -40~85℃; Part Status: 测评
footprint sot23-3_dbz3_1
pins: 1 /RESET (power), 2 GND, 3 VIN

## WD1304E30_0_Dup1
designator U?, comment EC2232E
DC/DC,Buck,Vin:4.5V~17V,Vout:0.6V~6V,3A,1路; Manufacturer: 上海芯强微电子股份有限公司（Ecranic）; Manufacturer Character: 中国大陆; PCB Footprint: SOT-23-6L; As-Welded: /; Operation Temperature（℃）: -40~+85(Ta); ERP Number: 005.0001.0004.00889; Eco-Label: ROHS; Part Status: 试用; Manufacturer PartNumber: EC2232E; Temperature: -40~125℃
footprint SOT-23-6L
pins: 1 BST, 2 GND (power), 3 FB, 4 EN, 5 VIN (power), 6 SW

## WD1304E30_2
designator U?, comment ETA8145FT2G
DC/DC,Buck,Vin:4.5V~17V,Vout:0.8-5.5V,4A,1路; Manufacturer: 钰泰半导体股份有限公司（ETA）; Manufacturer Character: 中国大陆; PCB Footprint: SOT-23-6L; ERP Number: 005.0001.0019.00038; As-Welded: /; Operation Temperature（℃）: -40~+85(Ta); ERP PCB Footprint: FCTSOT23-6; Eco-Label: ROHS; Part Status: 测评; Temperature: -40~85℃; Manufacturer PartNumber: ETA8145FT2G
footprint SOT-23-6L
pins: 1 GND (power), 2 SW, 3 VIN (power), 4 FB, 5 EN, 6 BST

## WD1304E30_17
designator U?, comment MT3608
DC/DC,Boost,Vin:2V~24V,Vout:2V~28V,4A,1路; Manufacturer Character: 中国大陆; Manufacturer: 西安航天民芯科技有限公司(aerosemi); Eco-Label: ROHS; ERP Number: 005.0001.0004.01152; As-Welded: /; Operation Temperature（℃）: -40~+85(Ta); PCB Footprint: SOT-23-6L; Manufacturer PartNumber: MT3608; Temperature: -40~85℃; Part Status: 测评
footprint SOT-23-6L
pins: 1 SW (power), 2 GND (power), 3 FB, 4 EN, 5 VIN, 6 NC

## WPM3021
designator Q?, comment WPM3021-8/TR
MOSFET,P沟道,VDSS=-30V,VGSS=±25V,ID=-13A,PD=3.8W,VGS(th)=-3V; Manufacturer Character: 中国大陆; Manufacturer: 上海韦尔半导体股份有限公司（WILLSEMI）; Eco-Label: ROHS; ERP Number: 005.0001.0009.00030; As-Welded: /; Operation Temperature（℃）: -55~+150(Tj); PCB Footprint: PSOPSOP-8L; Part Status: 优选; Manufacturer PartNumber: WPM3021-8/TR; Temperature: -40~85℃
footprint PSOPSOP-8L
pins: 1 S1, 2 S2, 3 S3, 4 G, 5 D1, 6 D2, 7 D3, 8 D4
text: D; S

## WS3222D-8/TR
designator U?
过压保护开关,VCC=2.5V~28V,过压保护阈值4V~15V可调; Manufacturer: 上海韦尔半导体股份有限公司（WILLSEMI）; Manufacturer Character: 中国大陆; Eco-Label: ROHS; ERP Number: 005.0001.0004.00643; Operation Temperature（℃）: -40~+85(Ta); As-Welded: /; PCB Footprint: DFN2x2-8L; Part Status: 优选; Manufacturer PartNumber: WS3222D-8/TR; Temperature: -40~85℃
footprint DFN2x2-8L
pins: 1 OUT (power), 2 OUT (power), 3 OUT (power), 4 GND (power), 5 OVLO, 6 IN (power), 7 IN (power), 8 IN (power), 9 GND (power)

## XL9555_0
designator U?, comment XL9555
拓展IO芯片; Manufacturer Character: 中国大陆; Manufacturer: 信路达信息技术（厦门）有限（xinluda）; PCB Footprint: TSSOP24; Eco-Label: ROHS; ERP Number: 005.0004.0001.00013; As-Welded: /; Operation Temperature（℃）: -40~+85(Ta); Part Status: 试用; Temperature: -40~85℃; Manufacturer PartNumber: XL9555
footprint TSSOP24
pins: 1 ~{INT}, 2 A1, 3 A2, 4 P00, 5 P01, 6 P02, 7 P03, 8 P04, 9 P05, 10 P06, 11 P07, 12 VSS, 13 P10, 14 P11, 15 P12, 16 P13, 17 P14, 18 P15, 19 P16, 20 P17, 21 A0, 22 SCL, 23 SDA, 24 VDD

## YT8531H-CA
designator U?, comment MAE0621A-Q3I
以太网收发器，RGMII/GMII/MII; Manufacturer Character: 中国大陆; Manufacturer: 联芸科技（杭州）股份有限公司; PCB Footprint: QFN40_5x5; Eco-Label: ROHS; ERP Number: 005.0001.0004.01249; As-Welded: /; Operation Temperature（℃）: -40~+85(Ta); Manufacturer PartNumber: MAE0621A-Q3I; Part Status: 优选
footprint QFN40_5x5
pins: 1 TRXP0, 2 TRXN0, 3 AVDDL (power), 4 TRXP1, 5 TRXN1, 6 TRXP2, 7 TRXN2, 8 AVDDL (power), 9 TRXP3, 10 TRXN3, 11 AVDD33 (power), 12 RESET_N, 13 MDC, 14 MDIO, 15 TXD3, 16 TXD2, 17 TXD1, 18 TXD0, 19 TX_CTL, 20 TX_CLK, 21 DVDDL (power), 22 RXD3/PHYAD0, 23 RXD2/PLLOFF, 24 RXD1/TXDLY, 25 RXD0/RXDLY, 26 RX_CTL/PHYAD2, 27 RX_CLK/PHYAD1, 28 DVDD_RGMII (power), 29 DVDD33 (power), 30 REG_O/LDO_O/NC (power), 31 INT_N/PME_N, 32 LED0/CFG_EXT, 33 LED1/CFG_LDO0, 34 LED2/CFG_LDO1, 35 CLKOUT, 36 XTAL_I, 37 XTAL_O, 38 AVDDL (power), 39 RBIAS, 40 AVDD33 (power), 41 EPAD (power)